# Altium schematic symbol library shelfControl 5V.SchLib: 1 symbol
Pins are listed as number, name and electrical type; pins without a type are passive.

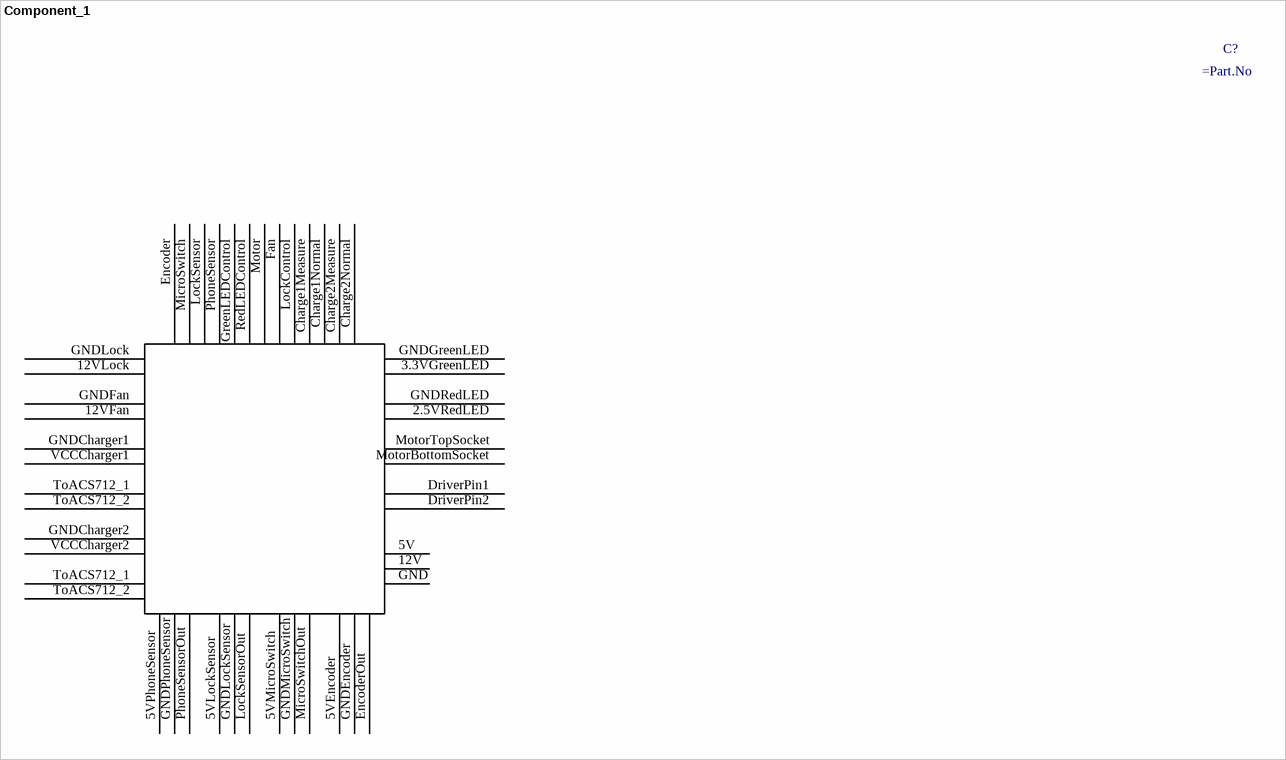
[diagram p0: symbol Component_1]

## Component_1
designator C?
Polypropylene film with epoxy Cap CBB22 105J400V; Manufacturer: CHINA; Designer: Abbas Basereh; Data: 16-12-2016; Link: https://www.alibaba.com/product-detail/CBB22-capacitors-105J-400V-1UF-400V_60020643516.html; Part. No: 105J400V
footprint CBB22 (W23_0_H14_5_T8_0_P19)
pins: 2.5VRedLED, 3.3VGreenLED, 5V, 5VEncoder, 5VLockSensor, 5VMicroSwitch, 5VPhoneSensor, 12V, 12VFan, 12VLock, Charge1Measure, Charge1Normal, Charge2Measure, Charge2Normal, DriverPin1, DriverPin2, Encoder, EncoderOut, Fan, GND, GNDCharger1, GNDCharger2, GNDEncoder, GNDFan, GNDGreenLED, GNDLock, GNDLockSensor, GNDMicroSwitch, GNDPhoneSensor, GNDRedLED, GreenLEDControl, LockControl, LockSensor, LockSensorOut, MicroSwitch, MicroSwitchOut, Motor, MotorBottomSocket, MotorTopSocket, PhoneSensor, PhoneSensorOut, RedLEDControl, ToACS712_1, ToACS712_1, ToACS712_2, ToACS712_2, VCCCharger1, VCCCharger2
1 alternate drawing of the same symbol